# EAGLE library part TLC555CDG4 (library ruark2)
555 Type, Timer/Oscillator (Single) IC 2.1MHz 8-SOIC
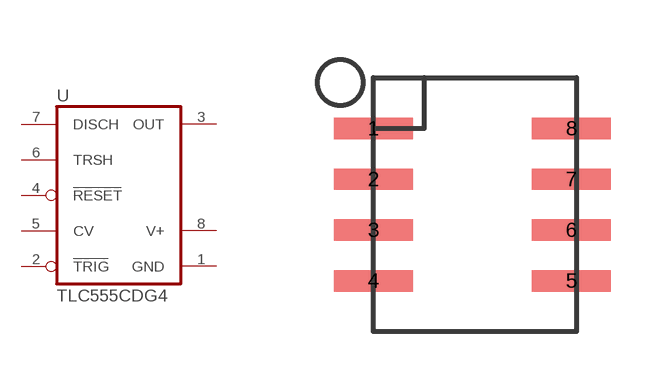
[diagram p175: symbol with the pads of SOIC8; footprint SOIC8]

Designator prefix U

## TLC555CDG4 (PARTNO: 296-52992-ND)  [SOIC8]
1  GND  pwr
2  TRIG
3  OUT  out
4  RESET  in
5  CV  pas
6  TRSH  in
7  DISCH  in
8  V+  pwr

## Footprint SOIC8 (pad centres in mm)
smd 1.981 x 0.533: 1 -2.477,1.905; 2 -2.477,0.635; 3 -2.477,-0.635; 4 -2.477,-1.905; 5 2.477,-1.905; 6 2.477,-0.635; 7 2.477,0.635; 8 2.477,1.905